# EAGLE library part CN24DR (library cx5m2_vram_board)
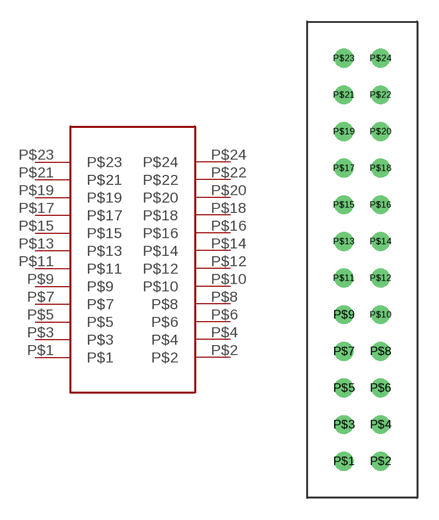
[diagram p0: symbol with the pads of VRAM_CONN; footprint VRAM_CONN]

Designator prefix -

## CN24DR  [VRAM_CONN]
P$1  P$1
P$2  P$2
P$3  P$3
P$4  P$4
P$5  P$5
P$6  P$6
P$7  P$7
P$8  P$8
P$9  P$9
P$10  P$10
P$11  P$11
P$12  P$12
P$13  P$13
P$14  P$14
P$15  P$15
P$16  P$16
P$17  P$17
P$18  P$18
P$19  P$19
P$20  P$20
P$21  P$21
P$22  P$22
P$23  P$23
P$24  P$24

## Footprint VRAM_CONN (pad centres in mm)
drill 0.8: P$1 -2.54,0; P$2 0,0; P$3 -2.54,2.54; P$4 0,2.54; P$5 -2.54,5.08; P$6 0,5.08; P$7 -2.54,7.62; P$8 0,7.62; P$9 -2.54,10.16; P$10 0,10.16; P$11 -2.54,12.7; P$12 0,12.7; P$13 -2.54,15.24; P$14 0,15.24; P$15 -2.54,17.78; P$16 0,17.78; P$17 -2.54,20.32; P$18 0,20.32; P$19 -2.54,22.86; P$20 0,22.86; P$21 -2.54,25.4; P$22 0,25.4; P$23 -2.54,27.94; P$24 0,27.94